# EAGLE library part 1X10HEADER (library elcanoParts)
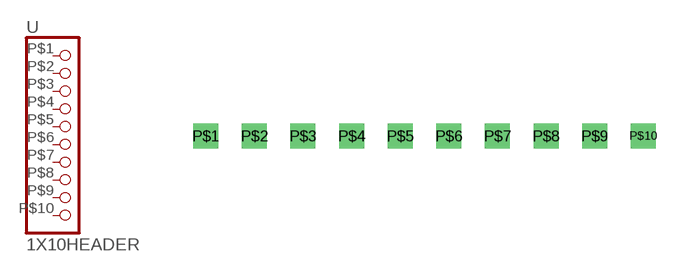
[diagram p2: symbol with the pads of SMALL10; footprint SMALL10]

Designator prefix -

## 1X10HEADER  [SMALL10]
P$1  1  pas
P$2  2  pas
P$3  3  pas
P$4  4  pas
P$5  5  pas
P$6  6  pas
P$7  7  pas
P$8  8  pas
P$9  9  pas
P$10  10  pas

## Footprint SMALL10 (pad centres in mm)
Small pads
drill 0.8 square: P$1 0,0; P$2 2.54,0; P$3 5.08,0; P$4 7.62,0; P$5 10.16,0; P$6 12.7,0; P$7 15.24,0; P$8 17.78,0; P$9 20.32,0; P$10 22.86,0